# EAGLE library part OPA1612 (library common)
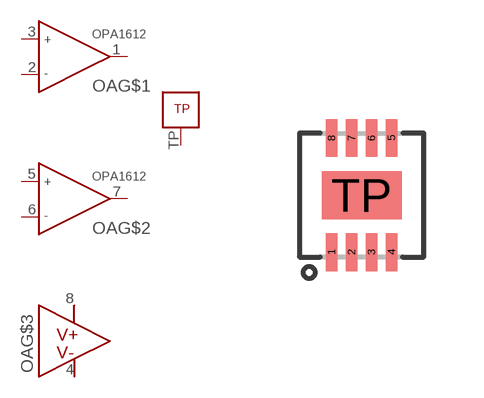
[diagram p11: symbol with the pads of S-PWSON-N8; footprint S-PWSON-N8]

Designator prefix OA; gates G$1=OPAMPA G$2=OPAMPB G$3=OPAMP_PWR G$4=TPA6120_TP

## OPA1612  [S-PWSON-N8]
1  G$1:OUTA
2  G$1:INA-
3  G$1:INA+
4  G$3:V-  pwr
5  G$2:INB+
6  G$2:INB-
7  G$2:OUTB
8  G$3:V+  pwr
TP  G$4:TP

## Footprint S-PWSON-N8 (pad centres in mm)
smd 0.28 x 0.95: 1 -0.75,-1.425; 2 -0.25,-1.425; 3 0.25,-1.425; 4 0.75,-1.425; 5 0.75,1.425; 6 0.25,1.425; 7 -0.25,1.425; 8 -0.75,1.425
smd 2 x 1.2: TP 0,0